# Altium schematic symbol library RES_ARRAY_4.SchLib: 1 symbol
Pins are listed as number, name and electrical type; pins without a type are passive.

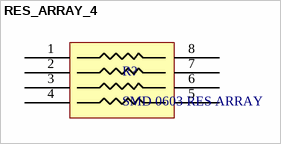
[diagram p0: symbol RES_ARRAY_4]

## RES_ARRAY_4
designator R?, comment SMD 0603 RES ARRAY
Value: *
pins: 1, 2, 3, 4, 5, 6, 7, 8